# Altium schematic symbol library ST3232BTR.SchLib: 1 symbol
Pins are listed as number, name and electrical type; pins without a type are passive.

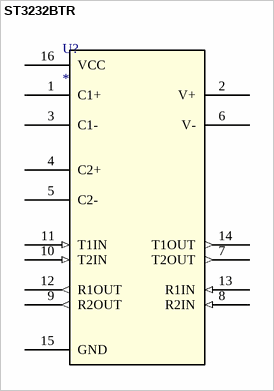
[diagram p0: symbol ST3232BTR]

## ST3232BTR
designator U?
IC TRANSCEIVER FULL 2/2 16TSSOP; Manufacturer 1: STMicroelectronics; Manufacturer Part Number 1: ST3232BTR; Data Rate: 400Kbps; Number of Transmitters: 2; Logic Function: Receiver; Number of Transceivers: 1; Min Supply Voltage: 3V; Max Supply Voltage: 5.5V; Nominal Supply Current: 2mA; Interface: RS-232; Output Voltage: 5.4V; ESD Protection: No; Supplier 1: Digi-Key; Stock 1: 57603; Pricing 1: 1=1.14000, 10=1.02300, 100=0.79740, 500=0.65874, 1000=0.52005 (USD); RoHS: Yes; Mount: Surface Mount; Case/Package: TSSOP; Number of Pins: 16; Contact Plating: Gold; Min Operating Temperature: -40°C; Max Operating Temperature: 85°C; Package Quantity: 2500; Packaging: Tape and Reel; Number of Receivers: 2; Number of Drivers: 2; Max Supply Current: 2mA; Length: 5mm; Height: 1mm; Width: 4.4mm; Radiation Hardening: No; REACH SVHC: No SVHC; Lead Free: Lead Free; ComponentLink1URL: https://datasheet.ciiva.com/41459/001185619-da-01-en-ic-drvr-rcvr-rs23-st3232btr-tssop-16-stm-41459900.pdf?src-supplier=Conrad; ComponentLink1Description: https://datasheet.ciiva.com/41459/001185619-da-01-en-ic-drvr-rcvr-rs23-st3232btr-tssop-16-stm-41459900.pdf?src-supplier=Conrad; ComponentLink2URL: https://datasheet.ciiva.com/1701/cd00002253-1701218.pdf?src-supplier=Digi-Key; ComponentLink2Description: https://datasheet.ciiva.com/1701/cd00002253-1701218.pdf?src-supplier=Digi-Key; ComponentLink3URL: https://datasheet.ciiva.com/7630/1766333-7630101.pdf?src-supplier=Element14; ComponentLink3Description: https://datasheet.ciiva.com/7630/1766333-7630101.pdf?src-supplier=Element14; ComponentLink4URL: https://datasheet.ciiva.com/16490/cd00002253-16490023.pdf?src-supplier=Future+Electronics; ComponentLink4Description: https://datasheet.ciiva.com/16490/cd00002253-16490023.pdf?src-supplier=Future+Electronics; ComponentLink5URL: https://datasheet.ciiva.com/16641/cd00002253-16641599.pdf?src-supplier=Avnet+Europe; ComponentLink5Description: https://datasheet.ciiva.com/16641/cd00002253-16641599.pdf?src-supplier=Avnet+Europe; ComponentLink6URL: https://datasheet.ciiva.com/1701/cd00002253-1701219.pdf?src-supplier=Digi-Key; ComponentLink6Description: https://datasheet.ciiva.com/1701/cd00002253-1701219.pdf?src-supplier=Digi-Key; ComponentLink7URL: https://datasheet.ciiva.com/1701/cd00002253-1701220.pdf?src-supplier=Digi-Key; ComponentLink7Description: https://datasheet.ciiva.com/1701/cd00002253-1701220.pdf?src-supplier=Digi-Key
footprint TSSOP16
pins: 1 C1+, 2 V+, 3 C1-, 4 C2+, 5 C2-, 6 V-, 7 T2OUT (out), 8 R2IN (in), 9 R2OUT (out), 10 T2IN (in), 11 T1IN (in), 12 R1OUT (out), 13 R1IN (in), 14 T1OUT (out), 15 GND (power), 16 VCC (power)